# Altium schematic symbol library Ad-Flier_Parts.SchLib: 32 symbols
Pins are listed as number, name and electrical type; pins without a type are passive.

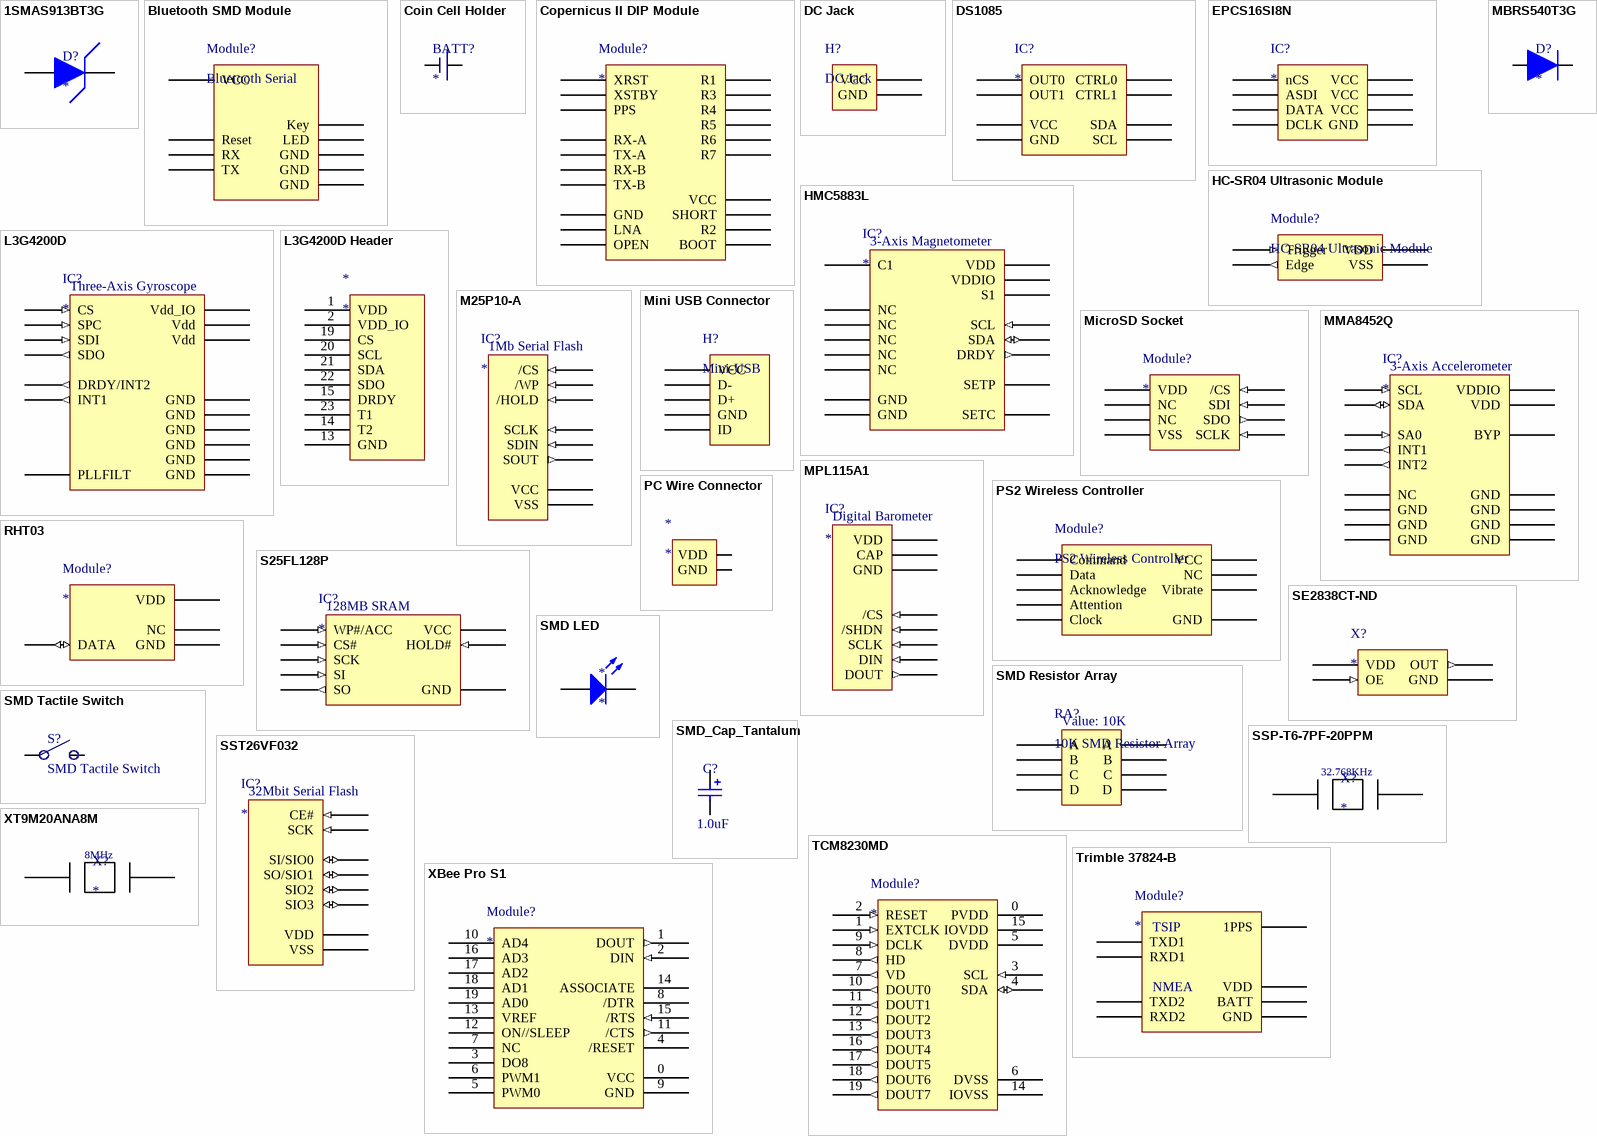
[diagram p0: symbols 1SMAS913BT3G to XT9M20ANA8M]

## 1SMAS913BT3G
designator D?
3.3V 1.5W Zener Diode
footprint 1SMA5913BT3G; pin to pad 0>A 1>K
pins: 0 In, 1 Out

## Bluetooth SMD Module
designator Module?, comment Bluetooth Serial
Bluetooth SMD Serial Module
footprint BT0417C Bluetooth Module; pin to pad 3>11 4>12 5>13 6>21 7>22 8>24 9>26
pins: 1 TX, 2 RX, 3 Reset, 4 VCC, 5 GND, 6 GND, 7 GND, 8 LED, 9 Key

## Coin Cell Holder
designator BATT?
Coin Cell Battery Holder
footprint Coil Cell Holder
pins: NEG, POS

## Copernicus II DIP Module
designator Module?
footprint Copernicus GPS Module; pin to pad 0>1 1>2 2>3 3>4 4>5 5>6 6>7 7>8 8>9 9>10 10>11 11>12 12>13 13>14 14>15 15>16 16>17 17>18 18>19 19>20
pins: 0 LNA, 1 R1, 2 OPEN, 3 SHORT, 4 R2, 5 BOOT, 6 XRST, 7 VCC, 8 GND, 9 XSTBY, 10 R3, 11 R4, 12 PPS, 13 RX-B, 14 RX-A, 15 R5, 16 TX-A, 17 TX-B, 18 R6, 19 R7

## DC Jack
designator H?
DC Power Jack
footprint DC Power Jack
pins: GND, NC hidden, VCC

## DS1085
designator IC?
EconOscillator Frequency Synthesizer
footprint DS1085 SO-150mil; pin to pad 0>1 1>2 2>3 3>4 4>5 5>6 6>7 7>8
pins: 0 OUT1 "Main Oscillator Output", 1 OUT0 "Reference Oscillator Output", 2 VCC "Power-Supply Voltage", 3 GND "Ground", 4 CTRL0 "Control Pin for OUT0", 5 CTRL1 "Control Pin for OUT1", 6 SDA "2-Wire Serial Data I/O", 7 SCL "2-Wire Serial Clock"

## EPCS16SI8N
designator IC?
16MB FPGA CONFIGURATION DEVICE
footprint EPCS16SI8N SO-8; pin to pad 0>1 1>2 2>3 3>4 4>5 5>6 6>7 7>8
pins: 0 nCS, 1 DATA, 2 VCC (power), 3 GND (power), 4 ASDI, 5 DCLK, 6 VCC (power), 7 VCC (power)

## HC-SR04 Ultrasonic Module
designator Module?
footprint HC-SR04 Ultrasonic Ranger; pin to pad 0>1 1>2 2>3 3>4
pins: 0 VDD (power), 1 Trigger (in), 2 Edge (out), 3 VSS (power)

## HMC5883L
designator IC?
3-Axis Digital Compass IC
footprint HMC5883L-TR; pin to pad 0>1 1>2 2>3 3>4 4>5 5>6 6>7 7>8 8>9 9>10 10>11 11>12 12>13 13>14 14>15 15>16
pins: 0 SCL (in), 1 VDD (power), 2 NC, 3 S1 (power), 4 NC, 5 NC, 6 NC, 7 SETP, 8 GND (power), 9 C1, 10 GND (power), 11 SETC, 12 VDDIO (power), 13 NC, 14 DRDY (out), 15 SDA (io)
text: 3-Axis Magnetometer

## L3G4200D
designator IC?
Three-Axis Digital Output MEMS Gyroscope
footprint L3G4200DTR; pin to pad 0>1 1>2 2>3 3>4 4>5 5>6 6>7 7>8 8>9 9>10 10>11 11>12 12>13 13>14 14>15 15>16
pins: 0 Vdd_IO (power), 1 SPC (in), 2 SDI (in), 3 SDO (out), 4 CS (in), 5 DRDY/INT2 (out), 6 INT1 (out), 7 GND (power), 8 GND (power), 9 GND (power), 10 GND (power), 11 GND (power), 12 GND (power), 13 PLLFILT, 14 Vdd (power), 15 Vdd (power)
text: Three-Axis Gyroscope

## L3G4200D Header
designator *
footprint DIP24
pins: 1 VDD, 2 VDD_IO, 3 1 hidden, 4 2 hidden, 5 3 hidden, 6 4 hidden, 7 5 hidden, 8 6 hidden, 9 7 hidden, 10 8 hidden, 11 9 hidden, 12 10 hidden, 13 GND, 14 T2, 15 DRDY, 16 11 hidden, 17 12 hidden, 18 13 hidden, 19 CS, 20 SCL, 21 SDA, 22 SDO, 23 T1, 24 14 hidden

## M25P10-A
designator IC?
1Mbit Serial Flash
pins: 0 /CS (in) "Chip Select (HI-Z)", 1 SOUT (out) "Serial Data Out", 2 /WP (in) "Write Protect", 3 VSS (power), 4 VCC (power), 5 /HOLD (in) "Hold at High Impedance", 6 SCLK (in) "Serial Clock", 7 SDIN (in) "Serial Data In"
text: 1Mb Serial Flash

## MBRS540T3G
designator D?
40V 5A Scottky Diode
footprint MBRS540T3G; pin to pad 0>A 1>K
pins: 0 In, 1 Out

## MicroSD Socket
designator Module?
MicroSD SPI Interface; Supplier 1: Digi-Key
footprint MicroSD Card Slot; pin to pad 0>1 1>2 2>3 3>4 4>5 5>6 6>7 7>8
pins: 0 NC, 1 /CS (in), 2 SDI (in), 3 VDD (power), 4 SCLK (in), 5 VSS (power), 6 SDO (out), 7 NC

## Mini USB Connector
designator H?, comment Mini-USB
footprint Mini B USB Connector; pin to pad 0>1 1>2 2>3 3>4 4>5
pins: 0 GND, 1 ID, 2 D+, 3 D-, 4 VCC

## MMA8452Q
designator IC?
3-Axis, 12-bit/8-bit Digital Accelerometer
footprint MMA8452QT; pin to pad 0>1 1>2 2>3 3>4 4>5 5>6 6>7 7>8 8>9 9>10 10>11 11>12 12>13 13>14 14>15 15>16
pins: 0 VDDIO (power) "Internal Power Supply (1.62 V - 3.6 V)", 1 BYP "Bypass capacitor (0.1 uF)", 2 NC "Leave open. Do not connect.", 3 SCL (in) "I2C Serial Clock", 4 GND (power) "Connect to Ground", 5 SDA (io) "I2C Serial Data", 6 SA0 (in) "I2C Least Significant Bit of the Device I2C Address", 7 GND (power) "Internally not connected (can be GND or VDD)", 8 INT2 (out) "Inertial Interrupt 2", 9 GND (power) "Connect to Ground", 10 INT1 (out) "Inertial Interrupt 1", 11 GND (power) "Connect to Ground", 12 GND (power) "Internally not connected (can be GND or VDD)", 13 VDD (power) "Power Supply (1.95 V - 3.6 V)", 14 GND (power) "Internally not connected (can be GND or VDD)", 15 GND (power) "Internally not connected (can be GND or VDD)"
text: 3-Axis Accelerometer

## MPL115A1
designator IC?
Miniature SPI Digital Barometer
footprint MPL115A1; pin to pad 0>1 1>2 2>3 3>4 4>5 5>6 6>7 7>8
pins: 0 VDD (power), 1 CAP, 2 GND (power), 3 /SHDN (in), 4 /CS (in), 5 DOUT (out), 6 DIN (in), 7 SCLK (in)
text: Digital Barometer

## PC Wire Connector
designator *
footprint PC Wire Connector
pins: L VDD, R GND

## PS2 Wireless Controller
designator Module?
footprint PS2 Wireless Module
pins: 1 Data, 2 Command, 3 Vibrate "+8.0V", 4 GND, 5 VCC "+3.3V", 6 Attention, 7 Clock, 8 NC, 9 Acknowledge

## RHT03
designator Module?
Digital Humidity & Temp Sensor
footprint RHT03 Humidity Sensor; pin to pad 0>1 1>2 2>3 3>4
pins: 0 VDD (power), 1 DATA (io), 2 NC, 3 GND (power)

## S25FL128P
designator IC?
128MB 104-MHz SPI Flash Memory
footprint S25FL128P; pin to pad 0>1 1>2 2>3 3>4 4>5 5>6 6>7 7>8
pins: 0 CS# (in), 1 SO (out), 2 WP#/ACC (in), 3 GND (power), 4 SI (in), 5 SCK (in), 6 HOLD# (in), 7 VCC (power)
text: 128MB SRAM

## SE2838CT-ND
designator X?
OSCILLATOR 25.1750MHZ SMD
footprint SG-636PCE 25.175MHz Crystal; pin to pad 0>1 1>2 2>3 3>4
pins: 0 OE (in), 1 GND (power), 2 OUT (out), 3 VDD (power)

## SMD LED
designator *
footprint PLCC-4 LED; pin to pad 1>2 2>1
pins: 1 A, 2 K

## SMD Resistor Array
designator RA?, comment 10K SMD Resistor Array  value 10K
4-Count Resistor Array
footprint Resistor Array YC164; pin to pad 5>8 6>7 7>6 8>5
pins: 1 A, 2 B, 3 C, 4 D, 5 A, 6 B, 7 C, 8 D

## SMD Tactile Switch
designator S?
footprint SMD Tactile Switch
pins: 1, 2

## SMD_Cap_Tantalum
designator C?, comment value 1.0uF  (hidden comment: 1.0uF Low-ESR Tantalum CaseA)
Tantalum Capacitor - Case A
footprint Capacitor - Tantalum Case A
pins: 1 +, 2 -

## SSP-T6-7PF-20PPM
designator X?
32.768KHz 7pF SMD Crystal
footprint 32.768KHz Crystal; pin to pad 0>1 1>2
pins: 0 2, 1 2
text: 32.768KHz

## SST26VF032
designator IC?
32Mbit Serial Quad I/O (SQI) Flash Memory
pins: 0 CE# (in), 1 SO/SIO1 (io), 2 SIO2 (io), 3 VSS (power), 4 SI/SIO0 (io), 5 SCK (in), 6 SIO3 (io), 7 VDD (power)
text: 32Mbit Serial Flash

## TCM8230MD
designator Module?
Toshiba 640x480 Camera
footprint TCM8230MD Camera Module; pin to pad 0>1 1>2 2>3 3>4 4>5 5>6 6>7 7>8 8>9 9>10 10>11 11>12 12>13 13>14 14>15 15>16 16>17 17>18 18>19 19>20
pins: 0 PVDD (power), 1 EXTCLK (in), 2 RESET (in), 3 SCL (in), 4 SDA (io), 5 DVDD (power), 6 DVSS (power), 7 VD (out), 8 HD (out), 9 DCLK (in), 10 DOUT0 (out), 11 DOUT1 (out), 12 DOUT2 (out), 13 DOUT3 (out), 14 IOVSS (power), 15 IOVDD (power), 16 DOUT4 (out), 17 DOUT5 (out), 18 DOUT6 (out), 19 DOUT7 (out)

## Trimble 37824-B
designator Module?
Trimble 37824-B GPS Module
footprint Trimble 37824-B
pins: 1 TXD2 "NMEA 4800bps 8-none-1", 2 VDD "+5V @ 100mA", 3 TXD1 "TSIP 9600bps 8-odd-1", 4 BATT "Backup Battery (3.2V - 5.25V)", 5 RXD1, 6 1PPS, 7 RXD2, 8 GND
text: TSIP; NMEA

## XBee Pro S1
designator Module?
XBee Pro S1 60mW Wireless Module
footprint XBee Pro S1 Wireless Module; pin to pad 0>1 1>2 2>3 3>4 4>5 5>6 6>7 7>8 8>9 9>10 10>11 11>12 12>13 13>14 14>15 15>16 16>17 17>18 18>19 19>20
pins: 0 VCC (power), 1 DOUT (out), 2 DIN (in), 3 DO8, 4 /RESET, 5 PWM0, 6 PWM1, 7 NC, 8 /DTR, 9 GND (power), 10 AD4, 11 /CTS (out), 12 ON//SLEEP, 13 VREF, 14 ASSOCIATE, 15 /RTS (in), 16 AD3, 17 AD2, 18 AD1, 19 AD0

## XT9M20ANA8M
designator X?
8MHz SMD Crystal
footprint XT9M20ANA8M - 8MHz Capacitor; pin to pad 0>1 1>2
pins: 0, 1 0
text: 8MHz